# Altium footprint library led_PcbLib.PcbLib: 3 footprints
Each footprint in its own frame and in the unit in brackets; x right, y up, seen from the top. Pads: shape width x height; smd on the part's side, far side on the other; paste and mask are expansions set on the pad; w line width, h text height; cw(c..) or ccw(c..) is an arc to the next point about the centre after c.
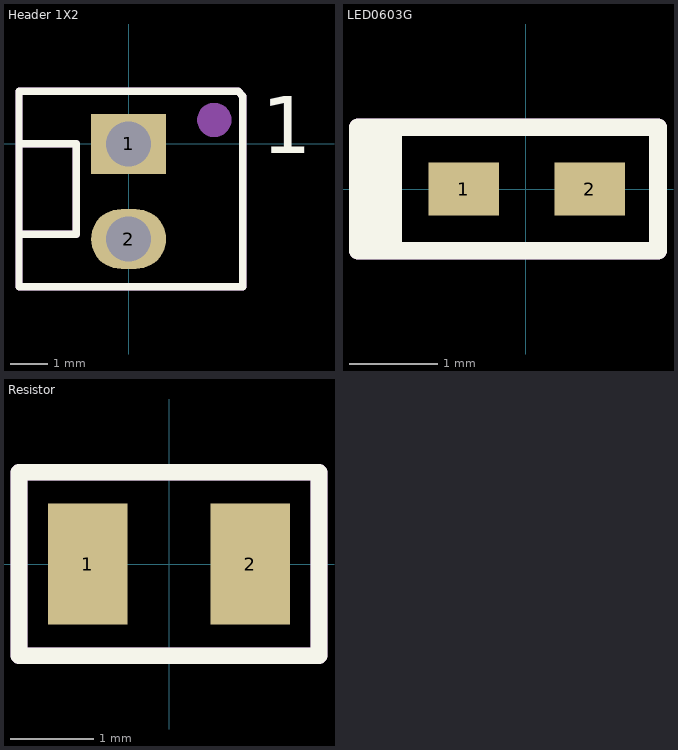
[diagram p0: the footprints below, top view; thin cyan lines are the x and y axes]

## Header 1X2 [mm]
pads (2):
  rect 2x1.6 hole 1.2: 1(0,0)
  oval 2x1.6 hole 1.2: 2(0,-2.54)
Top Overlay:
  lines w0.2: -2.921,-2.413 -1.397,-2.413 -1.397,0 -2.794,0 ; -2.921,-3.81 3.048,-3.81 3.048,1.27 2.921,1.397 -2.921,1.397 -2.921,-3.81
  text "1" at 3.556,-0.254 h1.52
Assembly Notes:
  circle w0.508: c2.286,0.635 r0.203
  lines w0.2: -2.921,-2.413 -1.397,-2.413 -1.397,0 -2.794,0 ; -2.921,-3.81 3.048,-3.81 3.048,1.27 2.921,1.397 -2.921,1.397 -2.921,-3.81
  text "'.Designator'1" at -1.143,-1.905 h1.52
3D body "022292021.stp": height 11.71, standoff -3.55, extent -2.9,-3.81 2.9,1.27

## LED0603G [mm]
pads (2):
  rect 0.8x0.6 smd: 1(-0.7,0) 2(0.725,0)
Top Overlay:
  rectangle: -1.9,-0.7 -1.4,0.7
  lines w0.2: -1.9,-0.7 1.5,-0.7 1.5,-0.35 1.5,0.35 1.5,0.7 -1.9,0.7 -1.9,-0.7
Assembly Notes:
  rectangle: -1.9,-0.7 -1.4,0.7
  lines w0.2: -1.9,-0.7 1.5,-0.7 1.5,-0.35 1.5,0.35 1.5,0.7 -1.9,0.7 -1.9,-0.7
  text "'.Designator'" at -0.9,-0.333 h0.5
3D body "User Library-led0603_GRE.SLDPRT": height 1.11, standoff 0.01, extent -0.81,-0.4 0.81,0.4

## Resistor [mm]
pads (2):
  rect 0.95x1.45 smd: 1(-0.975,0) 2(0.975,0)
Top Overlay:
  lines w0.2: -1.8,-1.1 -1.8,1.1 1.8,1.1 1.8,-1.1 -1.8,-1.1
Assembly Notes:
  lines w0.2: -1.8,-1.1 -1.8,1.1 1.8,1.1 1.8,-1.1 -1.8,-1.1
  text "'.Designator'" at -1.5,-0.067 h0.7
3D body "CRT0805-BY-1002EST--3DModel-STEP-46669.STEP": height 0.61, standoff 0.01, extent -1,-0.625 1,0.625